# Altium footprint library GRM21BR61C106KE15L.PcbLib: 3 footprints
Each footprint in its own frame and in the unit in brackets; x right, y up, seen from the top. Pads: shape width x height; smd on the part's side, far side on the other; paste and mask are expansions set on the pad; w line width, h text height; cw(c..) or ccw(c..) is an arc to the next point about the centre after c.
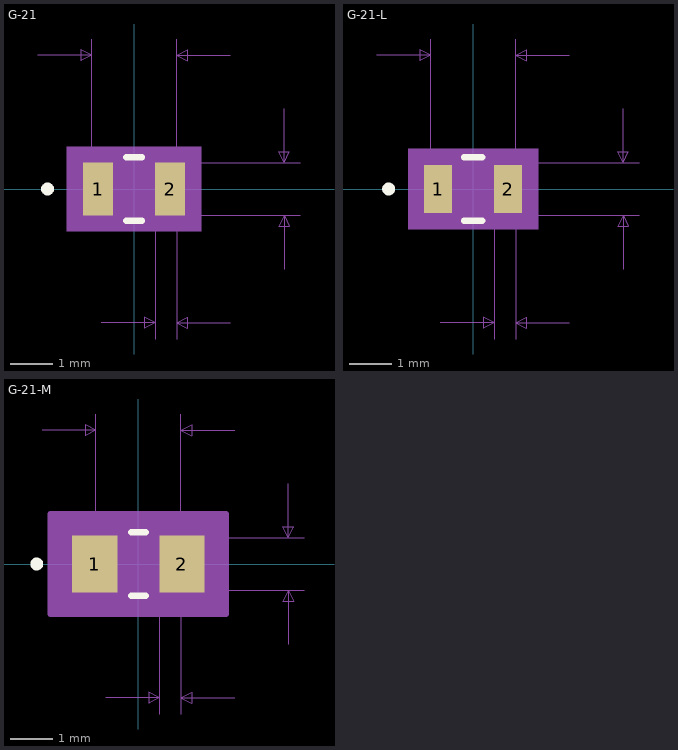
[diagram p0: the footprints below, top view; thin cyan lines are the x and y axes]

## G-21 [mil]
pads (2):
  rect 28x49 smd: 1(-33.5,0) 2(33.5,0)
Top Overlay:
  circle w6: c-80.5,0 r3
  lines w6: -7.39,-29.5 7.39,-29.5 ; -7.39,29.5 7.39,29.5
Mechanical 5:
  region: 62.5,-39.5 -62.5,-39.5 -62.5,39.5 62.5,39.5
Mechanical 7:
  lines w1: -89.5,124.5 -39.5,124.5 ; -39.5,0 -39.5,139.5 ; -30.5,-124.5 19.5,-124.5 ; 0,-24.5 154.5,-24.5 ; 0,24.5 154.5,24.5 ; 19.5,-139.5 19.5,0 ; 39.5,-139.5 39.5,0 39.5,139.5 ; 89.5,-124.5 39.5,-124.5 ; 89.5,124.5 39.5,124.5 ; 139.5,-74.5 139.5,-24.5 ; 139.5,74.5 139.5,24.5 ; -39.5,124.5 -49.5,129.5 -49.5,119.5 -39.5,124.5 ; 19.5,-124.5 9.5,-119.5 9.5,-129.5 19.5,-124.5 ; 39.5,-124.5 49.5,-119.5 49.5,-129.5 39.5,-124.5 ; 39.5,124.5 49.5,129.5 49.5,119.5 39.5,124.5 ; 139.5,-24.5 134.5,-34.5 144.5,-34.5 139.5,-24.5 ; 139.5,24.5 134.5,34.5 144.5,34.5 139.5,24.5
  text "Default Padstyle: RX28Y49D0T" at -350,-294.5 h50
  text "Alternate 1 Padstyle: OX60Y90D30P" at -412.5,-394.5 h50
  text "Alternate 2 Padstyle: OX90Y60D30P" at -412.5,-494.5 h50
  text "0.049in/1.245mm" at 159.5,-12.5 h25
  text "0.079in/2.007mm" at -93.75,144.5 h25
  text "0.02in/0.508mm" at -58,-169.5 h25
Mechanical 13:
  circle w0: c-28.5,0 r3
  lines w1: -39.5,-24.5 -39.5,24.5 ; -39.5,-24.5 -19.5,-24.5 -19.5,24.5 -39.5,24.5 ; -39.5,-24.5 39.5,-24.5 ; -39.5,-24.5 -39.5,24.5 ; -39.5,24.5 39.5,24.5 ; 39.5,-24.5 19.5,-24.5 19.5,24.5 39.5,24.5 ; 39.5,-24.5 39.5,24.5 ; 39.5,-24.5 39.5,24.5
Mechanical 15:
  region: 57.5,-34.5 -57.5,-34.5 -57.5,34.5 57.5,34.5
  lines w6: -57.5,-34.5 -57.5,34.5 57.5,34.5 57.5,-34.5 -57.5,-34.5
3D body: height 10, standoff 0, extent 0,0 10,10

## G-21-L [mil]
pads (2):
  rect 26x45 smd paste+0 mask+0: 1(-32.5,0) 2(32.5,0)
Top Overlay:
  circle w6: c-78.5,0 r3
  lines w6: -8.43,-29.5 8.43,-29.5 ; -8.43,29.5 8.43,29.5
Mechanical 5:
  region: 60.5,-37.5 -60.5,-37.5 -60.5,37.5 60.5,37.5
Mechanical 7:
  lines w1: -89.5,124.5 -39.5,124.5 ; -39.5,0 -39.5,139.5 ; -30.5,-124.5 19.5,-124.5 ; 0,-24.5 154.5,-24.5 ; 0,24.5 154.5,24.5 ; 19.5,-139.5 19.5,0 ; 39.5,-139.5 39.5,0 39.5,139.5 ; 89.5,-124.5 39.5,-124.5 ; 89.5,124.5 39.5,124.5 ; 139.5,-74.5 139.5,-24.5 ; 139.5,74.5 139.5,24.5 ; -39.5,124.5 -49.5,129.5 -49.5,119.5 -39.5,124.5 ; 19.5,-124.5 9.5,-119.5 9.5,-129.5 19.5,-124.5 ; 39.5,-124.5 49.5,-119.5 49.5,-129.5 39.5,-124.5 ; 39.5,124.5 49.5,129.5 49.5,119.5 39.5,124.5 ; 139.5,-24.5 134.5,-34.5 144.5,-34.5 139.5,-24.5 ; 139.5,24.5 134.5,34.5 144.5,34.5 139.5,24.5
  text "Default Padstyle: RX26Y45D0T" at -350,-292.5 h50
  text "Alternate 1 Padstyle: OX60Y90D30P" at -412.5,-392.5 h50
  text "Alternate 2 Padstyle: OX90Y60D30P" at -412.5,-492.5 h50
  text "0.049in/1.245mm" at 159.5,-12.5 h25
  text "0.079in/2.007mm" at -93.75,144.5 h25
  text "0.02in/0.508mm" at -58,-169.5 h25
Mechanical 13:
  circle w0: c-27.5,0 r3
  lines w1: -39.5,-24.5 -39.5,24.5 ; -39.5,-24.5 -19.5,-24.5 -19.5,24.5 -39.5,24.5 ; -39.5,-24.5 39.5,-24.5 ; -39.5,-24.5 -39.5,24.5 ; -39.5,24.5 39.5,24.5 ; 39.5,-24.5 19.5,-24.5 19.5,24.5 39.5,24.5 ; 39.5,-24.5 39.5,24.5 ; 39.5,-24.5 39.5,24.5
Mechanical 15:
  region: 49.5,-26.5 -49.5,-26.5 -49.5,26.5 49.5,26.5
  lines w6: -49.5,-26.5 -49.5,26.5 49.5,26.5 49.5,-26.5 -49.5,-26.5
3D body: height 10, standoff 0, extent 0,0 10,10

## G-21-M [mil]
pads (2):
  rect 42x53 smd paste+0 mask+0: 1(-40.5,0) 2(40.5,0)
Top Overlay:
  circle w6: c-94.5,0 r3
  lines w6: -6.75,-29.5 6.75,-29.5 ; -6.75,29.5 6.75,29.5
Mechanical 5:
  region: 76.5,-41.5 -76.5,-41.5 -76.5,41.5 76.5,41.5
Mechanical 7:
  lines w1: -89.5,124.5 -39.5,124.5 ; -39.5,0 -39.5,139.5 ; -30.5,-124.5 19.5,-124.5 ; 0,-24.5 154.5,-24.5 ; 0,24.5 154.5,24.5 ; 19.5,-139.5 19.5,0 ; 39.5,-139.5 39.5,0 39.5,139.5 ; 89.5,-124.5 39.5,-124.5 ; 89.5,124.5 39.5,124.5 ; 139.5,-74.5 139.5,-24.5 ; 139.5,74.5 139.5,24.5 ; -39.5,124.5 -49.5,129.5 -49.5,119.5 -39.5,124.5 ; 19.5,-124.5 9.5,-119.5 9.5,-129.5 19.5,-124.5 ; 39.5,-124.5 49.5,-119.5 49.5,-129.5 39.5,-124.5 ; 39.5,124.5 49.5,129.5 49.5,119.5 39.5,124.5 ; 139.5,-24.5 134.5,-34.5 144.5,-34.5 139.5,-24.5 ; 139.5,24.5 134.5,34.5 144.5,34.5 139.5,24.5
  text "Default Padstyle: RX42Y53D0T" at -350,-296.5 h50
  text "Alternate 1 Padstyle: OX60Y90D30P" at -412.5,-396.5 h50
  text "Alternate 2 Padstyle: OX90Y60D30P" at -412.5,-496.5 h50
  text "0.049in/1.245mm" at 159.5,-12.5 h25
  text "0.079in/2.007mm" at -93.75,144.5 h25
  text "0.02in/0.508mm" at -58,-169.5 h25
Mechanical 13:
  circle w0: c-35.5,0 r3
  lines w1: -39.5,-24.5 -39.5,24.5 ; -39.5,-24.5 -19.5,-24.5 -19.5,24.5 -39.5,24.5 ; -39.5,-24.5 39.5,-24.5 ; -39.5,-24.5 -39.5,24.5 ; -39.5,24.5 39.5,24.5 ; 39.5,-24.5 19.5,-24.5 19.5,24.5 39.5,24.5 ; 39.5,-24.5 39.5,24.5 ; 39.5,-24.5 39.5,24.5
Mechanical 15:
  region: 81.5,-46.5 -81.5,-46.5 -81.5,46.5 81.5,46.5
  lines w6: -81.5,-46.5 -81.5,46.5 81.5,46.5 81.5,-46.5 -81.5,-46.5
3D body: height 10, standoff 0, extent 0,0 10,10